# Altium schematic symbol library SCH - MCU - STM32 - ST MICROELECTRONICS STM32L4A6AGIX UFBGA169.SchLib: 1 symbol
Pins are listed as number, name and electrical type; pins without a type are passive.

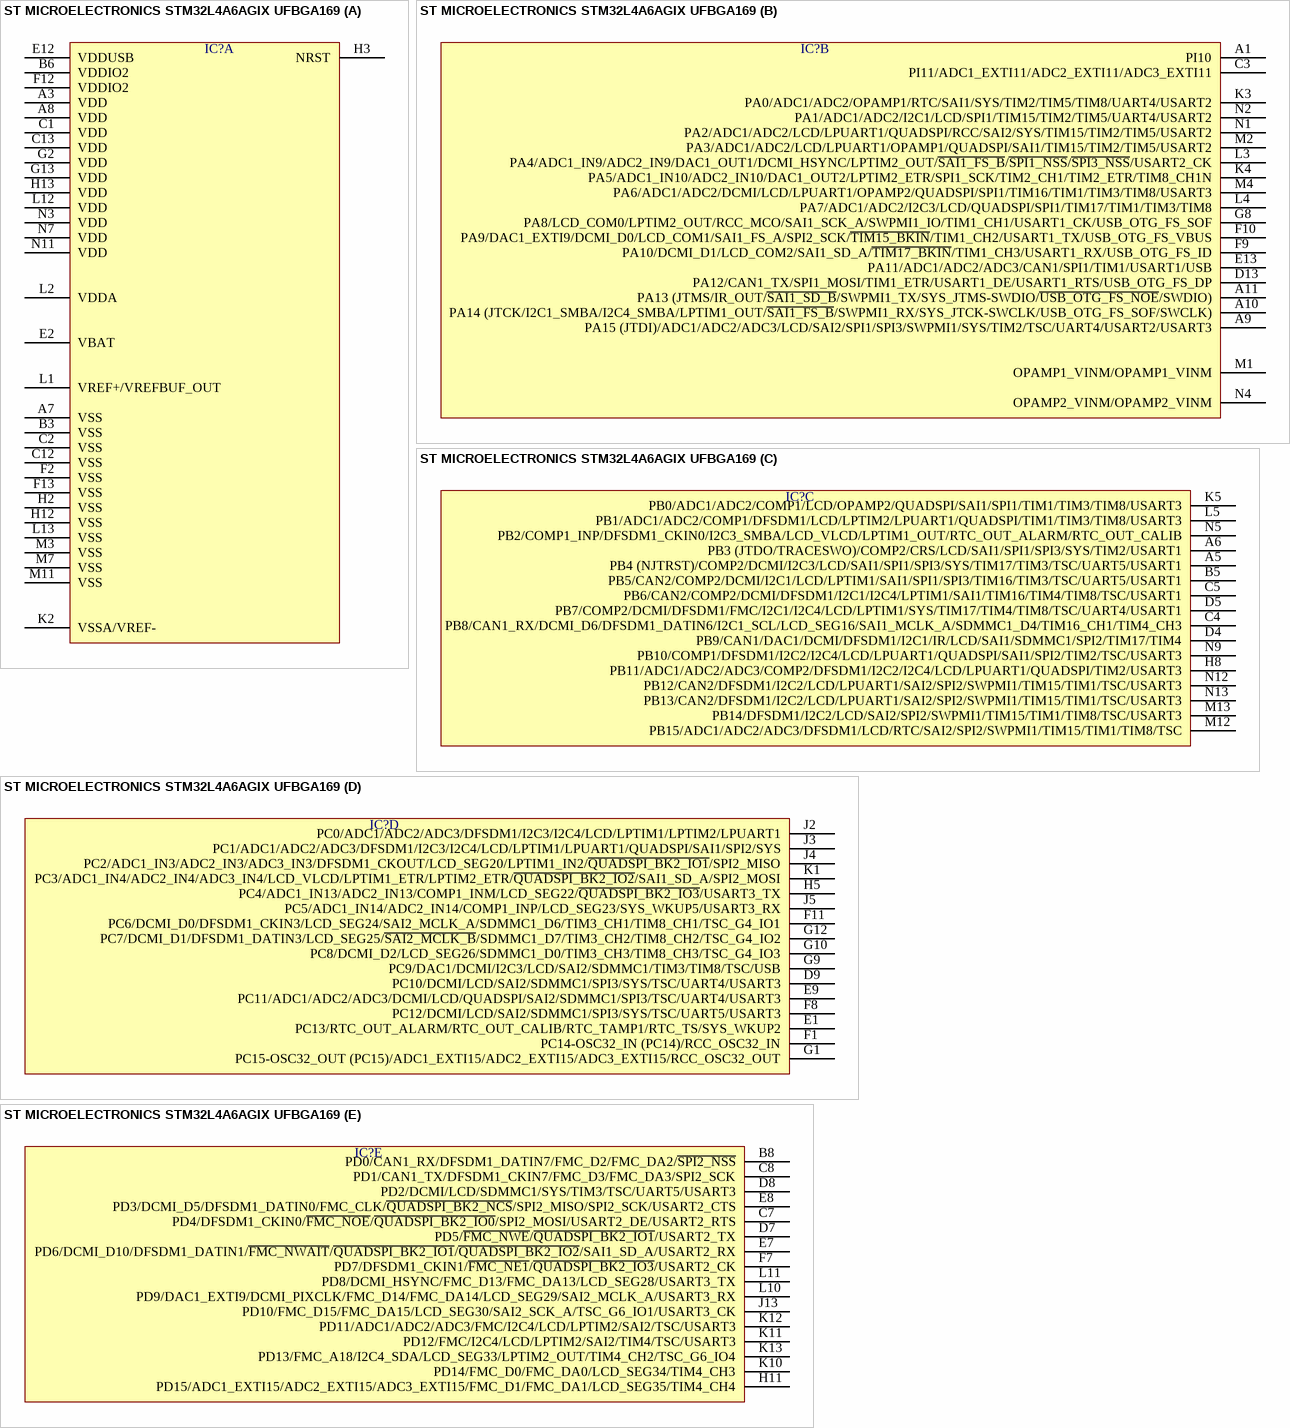
[diagram p0: symbol ST MICROELECTRONICS STM32L4A6AGIX UFBGA169]

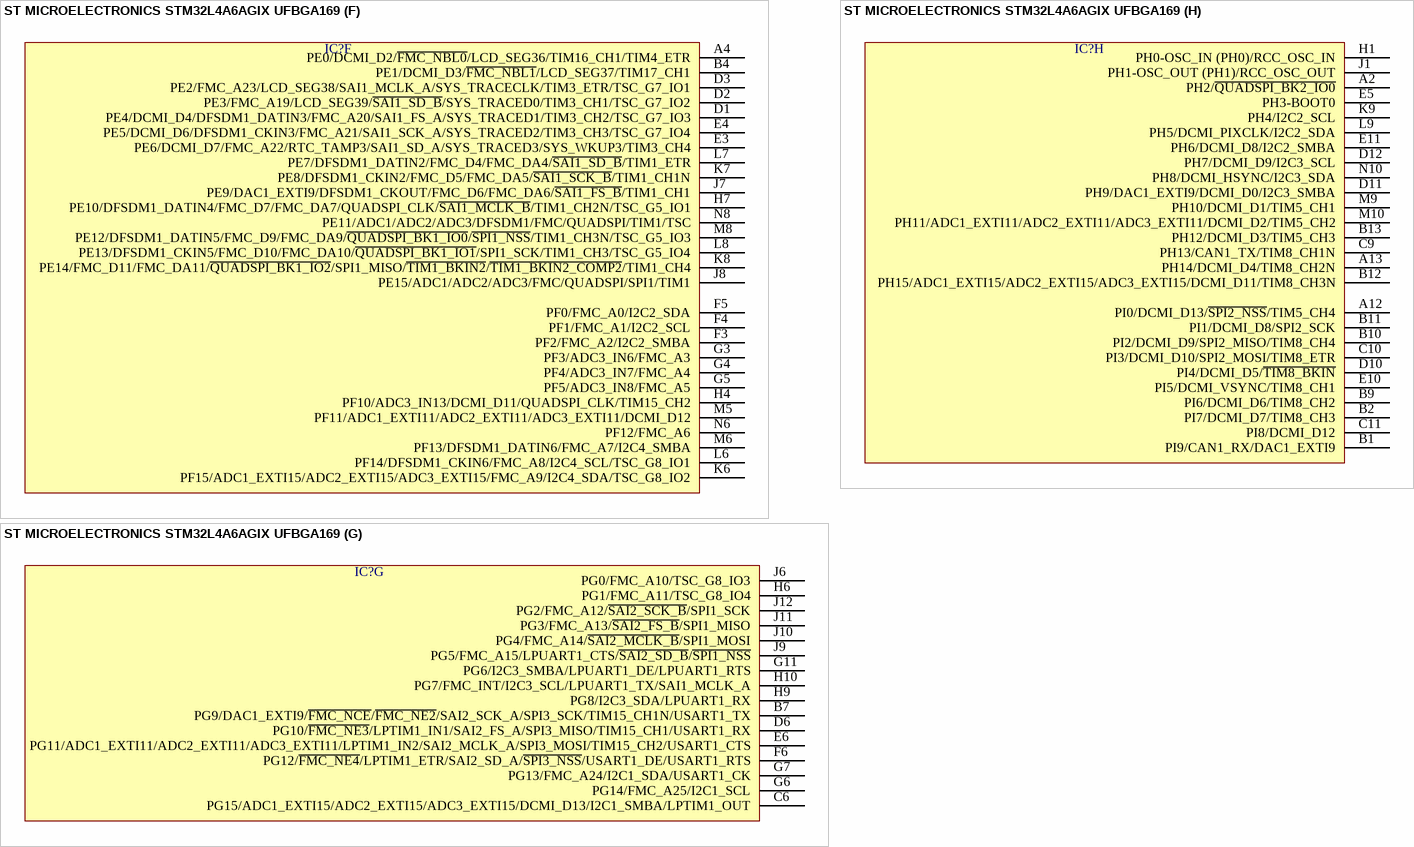
[diagram p1: symbol ST MICROELECTRONICS STM32L4A6AGIX UFBGA169]

## ST MICROELECTRONICS STM32L4A6AGIX UFBGA169
designator IC?  (value not drawn)
part A pins: A3 VDD, A7 VSS, A8 VDD, B3 VSS, B6 VDDIO2, C1 VDD, C2 VSS, C12 VSS, C13 VDD, E2 VBAT, E12 VDDUSB, F2 VSS, F12 VDDIO2, F13 VSS, G2 VDD, G13 VDD, H2 VSS, H3 NRST, H12 VSS, H13 VDD, K2 VSSA/VREF-, L1 VREF+/VREFBUF_OUT, L2 VDDA, L12 VDD, L13 VSS, M3 VSS, M7 VSS, M11 VSS, N3 VDD, N7 VDD, N11 VDD
part B pins: A1 PI10, A9 PA15 (JTDI)/ADC1/ADC2/ADC3/LCD/SAI2/SPI1/SPI3/SWPMI1/SYS/TIM2/TSC/UART4/USART2/USART3, A10 PA14 (JTCK/I2C1_SMBA/I2C4_SMBA/LPTIM1_OUT/~{SAI1_FS_B}/SWPMI1_RX/SYS_JTCK-SWCLK/USB_OTG_FS_SOF/SWCLK), A11 PA13 (JTMS/IR_OUT/~{SAI1_SD_B}/SWPMI1_TX/SYS_JTMS-SWDIO/~{USB_OTG_FS_NOE}/SWDIO), C3 PI11/ADC1_EXTI11/ADC2_EXTI11/ADC3_EXTI11, D13 PA12/CAN1_TX/SPI1_MOSI/TIM1_ETR/USART1_DE/USART1_RTS/USB_OTG_FS_DP, E13 PA11/ADC1/ADC2/ADC3/CAN1/SPI1/TIM1/USART1/USB, F9 PA10/DCMI_D1/LCD_COM2/SAI1_SD_A/~{TIM17_BKIN}/TIM1_CH3/USART1_RX/USB_OTG_FS_ID, F10 PA9/DAC1_EXTI9/DCMI_D0/LCD_COM1/SAI1_FS_A/SPI2_SCK/~{TIM15_BKIN}/TIM1_CH2/USART1_TX/USB_OTG_FS_VBUS, G8 PA8/LCD_COM0/LPTIM2_OUT/RCC_MCO/SAI1_SCK_A/SWPMI1_IO/TIM1_CH1/USART1_CK/USB_OTG_FS_SOF, K3 PA0/ADC1/ADC2/OPAMP1/RTC/SAI1/SYS/TIM2/TIM5/TIM8/UART4/USART2, K4 PA5/ADC1_IN10/ADC2_IN10/DAC1_OUT2/LPTIM2_ETR/SPI1_SCK/TIM2_CH1/TIM2_ETR/TIM8_CH1N, L3 PA4/ADC1_IN9/ADC2_IN9/DAC1_OUT1/DCMI_HSYNC/LPTIM2_OUT/~{SAI1_FS_B}/~{SPI1_NSS}/~{SPI3_NSS}/USART2_CK, L4 PA7/ADC1/ADC2/I2C3/LCD/QUADSPI/SPI1/TIM17/TIM1/TIM3/TIM8, M1 OPAMP1_VINM/OPAMP1_VINM, M2 PA3/ADC1/ADC2/LCD/LPUART1/OPAMP1/QUADSPI/SAI1/TIM15/TIM2/TIM5/USART2, M4 PA6/ADC1/ADC2/DCMI/LCD/LPUART1/OPAMP2/QUADSPI/SPI1/TIM16/TIM1/TIM3/TIM8/USART3, N1 PA2/ADC1/ADC2/LCD/LPUART1/QUADSPI/RCC/SAI2/SYS/TIM15/TIM2/TIM5/USART2, N2 PA1/ADC1/ADC2/I2C1/LCD/SPI1/TIM15/TIM2/TIM5/UART4/USART2, N4 OPAMP2_VINM/OPAMP2_VINM
part C pins: A5 PB4 (NJTRST)/COMP2/DCMI/I2C3/LCD/SAI1/SPI1/SPI3/SYS/TIM17/TIM3/TSC/UART5/USART1, A6 PB3 (JTDO/TRACESWO)/COMP2/CRS/LCD/SAI1/SPI1/SPI3/SYS/TIM2/USART1, B5 PB5/CAN2/COMP2/DCMI/I2C1/LCD/LPTIM1/SAI1/SPI1/SPI3/TIM16/TIM3/TSC/UART5/USART1, C4 PB8/CAN1_RX/DCMI_D6/DFSDM1_DATIN6/I2C1_SCL/LCD_SEG16/SAI1_MCLK_A/SDMMC1_D4/TIM16_CH1/TIM4_CH3, C5 PB6/CAN2/COMP2/DCMI/DFSDM1/I2C1/I2C4/LPTIM1/SAI1/TIM16/TIM4/TIM8/TSC/USART1, D4 PB9/CAN1/DAC1/DCMI/DFSDM1/I2C1/IR/LCD/SAI1/SDMMC1/SPI2/TIM17/TIM4, D5 PB7/COMP2/DCMI/DFSDM1/FMC/I2C1/I2C4/LCD/LPTIM1/SYS/TIM17/TIM4/TIM8/TSC/UART4/USART1, H8 PB11/ADC1/ADC2/ADC3/COMP2/DFSDM1/I2C2/I2C4/LCD/LPUART1/QUADSPI/TIM2/USART3, K5 PB0/ADC1/ADC2/COMP1/LCD/OPAMP2/QUADSPI/SAI1/SPI1/TIM1/TIM3/TIM8/USART3, L5 PB1/ADC1/ADC2/COMP1/DFSDM1/LCD/LPTIM2/LPUART1/QUADSPI/TIM1/TIM3/TIM8/USART3, M12 PB15/ADC1/ADC2/ADC3/DFSDM1/LCD/RTC/SAI2/SPI2/SWPMI1/TIM15/TIM1/TIM8/TSC, M13 PB14/DFSDM1/I2C2/LCD/SAI2/SPI2/SWPMI1/TIM15/TIM1/TIM8/TSC/USART3, N5 PB2/COMP1_INP/DFSDM1_CKIN0/I2C3_SMBA/LCD_VLCD/LPTIM1_OUT/RTC_OUT_ALARM/RTC_OUT_CALIB, N9 PB10/COMP1/DFSDM1/I2C2/I2C4/LCD/LPUART1/QUADSPI/SAI1/SPI2/TIM2/TSC/USART3, N12 PB12/CAN2/DFSDM1/I2C2/LCD/LPUART1/SAI2/SPI2/SWPMI1/TIM15/TIM1/TSC/USART3, N13 PB13/CAN2/DFSDM1/I2C2/LCD/LPUART1/SAI2/SPI2/SWPMI1/TIM15/TIM1/TSC/USART3
part D pins: D9 PC10/DCMI/LCD/SAI2/SDMMC1/SPI3/SYS/TSC/UART4/USART3, E1 PC13/RTC_OUT_ALARM/RTC_OUT_CALIB/RTC_TAMP1/RTC_TS/SYS_WKUP2, E9 PC11/ADC1/ADC2/ADC3/DCMI/LCD/QUADSPI/SAI2/SDMMC1/SPI3/TSC/UART4/USART3, F1 PC14-OSC32_IN (PC14)/RCC_OSC32_IN, F8 PC12/DCMI/LCD/SAI2/SDMMC1/SPI3/SYS/TSC/UART5/USART3, F11 PC6/DCMI_D0/DFSDM1_CKIN3/LCD_SEG24/SAI2_MCLK_A/SDMMC1_D6/TIM3_CH1/TIM8_CH1/TSC_G4_IO1, G1 PC15-OSC32_OUT (PC15)/ADC1_EXTI15/ADC2_EXTI15/ADC3_EXTI15/RCC_OSC32_OUT, G9 PC9/DAC1/DCMI/I2C3/LCD/SAI2/SDMMC1/TIM3/TIM8/TSC/USB, G10 PC8/DCMI_D2/LCD_SEG26/SDMMC1_D0/TIM3_CH3/TIM8_CH3/TSC_G4_IO3, G12 PC7/DCMI_D1/DFSDM1_DATIN3/LCD_SEG25/~{SAI2_MCLK_B}/SDMMC1_D7/TIM3_CH2/TIM8_CH2/TSC_G4_IO2, H5 PC4/ADC1_IN13/ADC2_IN13/COMP1_INM/LCD_SEG22/~{QUADSPI_BK2_IO3}/USART3_TX, J2 PC0/ADC1/ADC2/ADC3/DFSDM1/I2C3/I2C4/LCD/LPTIM1/LPTIM2/LPUART1, J3 PC1/ADC1/ADC2/ADC3/DFSDM1/I2C3/I2C4/LCD/LPTIM1/LPUART1/QUADSPI/SAI1/SPI2/SYS, J4 PC2/ADC1_IN3/ADC2_IN3/ADC3_IN3/DFSDM1_CKOUT/LCD_SEG20/LPTIM1_IN2/~{QUADSPI_BK2_IO1}/SPI2_MISO, J5 PC5/ADC1_IN14/ADC2_IN14/COMP1_INP/LCD_SEG23/SYS_WKUP5/USART3_RX, K1 PC3/ADC1_IN4/ADC2_IN4/ADC3_IN4/LCD_VLCD/LPTIM1_ETR/LPTIM2_ETR/~{QUADSPI_BK2_IO2}/SAI1_SD_A/SPI2_MOSI
part E pins: B8 PD0/CAN1_RX/DFSDM1_DATIN7/FMC_D2/FMC_DA2/~{SPI2_NSS}, C7 PD4/DFSDM1_CKIN0/~{FMC_NOE}/~{QUADSPI_BK2_IO0}/SPI2_MOSI/USART2_DE/USART2_RTS, C8 PD1/CAN1_TX/DFSDM1_CKIN7/FMC_D3/FMC_DA3/SPI2_SCK, D7 PD5/~{FMC_NWE}/~{QUADSPI_BK2_IO1}/USART2_TX, D8 PD2/DCMI/LCD/SDMMC1/SYS/TIM3/TSC/UART5/USART3, E7 PD6/DCMI_D10/DFSDM1_DATIN1/~{FMC_NWAIT}/~{QUADSPI_BK2_IO1}/~{QUADSPI_BK2_IO2}/SAI1_SD_A/USART2_RX, E8 PD3/DCMI_D5/DFSDM1_DATIN0/FMC_CLK/~{QUADSPI_BK2_NCS}/SPI2_MISO/SPI2_SCK/USART2_CTS, F7 PD7/DFSDM1_CKIN1/~{FMC_NE1}/~{QUADSPI_BK2_IO3}/USART2_CK, H11 PD15/ADC1_EXTI15/ADC2_EXTI15/ADC3_EXTI15/FMC_D1/FMC_DA1/LCD_SEG35/TIM4_CH4, J13 PD10/FMC_D15/FMC_DA15/LCD_SEG30/SAI2_SCK_A/TSC_G6_IO1/USART3_CK, K10 PD14/FMC_D0/FMC_DA0/LCD_SEG34/TIM4_CH3, K11 PD12/FMC/I2C4/LCD/LPTIM2/SAI2/TIM4/TSC/USART3, K12 PD11/ADC1/ADC2/ADC3/FMC/I2C4/LCD/LPTIM2/SAI2/TSC/USART3, K13 PD13/FMC_A18/I2C4_SDA/LCD_SEG33/LPTIM2_OUT/TIM4_CH2/TSC_G6_IO4, L10 PD9/DAC1_EXTI9/DCMI_PIXCLK/FMC_D14/FMC_DA14/LCD_SEG29/SAI2_MCLK_A/USART3_RX, L11 PD8/DCMI_HSYNC/FMC_D13/FMC_DA13/LCD_SEG28/USART3_TX
part F pins: A4 PE0/DCMI_D2/~{FMC_NBL0}/LCD_SEG36/TIM16_CH1/TIM4_ETR, B4 PE1/DCMI_D3/~{FMC_NBL1}/LCD_SEG37/TIM17_CH1, D1 PE4/DCMI_D4/DFSDM1_DATIN3/FMC_A20/SAI1_FS_A/SYS_TRACED1/TIM3_CH2/TSC_G7_IO3, D2 PE3/FMC_A19/LCD_SEG39/~{SAI1_SD_B}/SYS_TRACED0/TIM3_CH1/TSC_G7_IO2, D3 PE2/FMC_A23/LCD_SEG38/SAI1_MCLK_A/SYS_TRACECLK/TIM3_ETR/TSC_G7_IO1, E3 PE6/DCMI_D7/FMC_A22/RTC_TAMP3/SAI1_SD_A/SYS_TRACED3/SYS_WKUP3/TIM3_CH4, E4 PE5/DCMI_D6/DFSDM1_CKIN3/FMC_A21/SAI1_SCK_A/SYS_TRACED2/TIM3_CH3/TSC_G7_IO4, F3 PF2/FMC_A2/I2C2_SMBA, F4 PF1/FMC_A1/I2C2_SCL, F5 PF0/FMC_A0/I2C2_SDA, G3 PF3/ADC3_IN6/FMC_A3, G4 PF4/ADC3_IN7/FMC_A4, G5 PF5/ADC3_IN8/FMC_A5, H4 PF10/ADC3_IN13/DCMI_D11/QUADSPI_CLK/TIM15_CH2, H7 PE10/DFSDM1_DATIN4/FMC_D7/FMC_DA7/QUADSPI_CLK/~{SAI1_MCLK_B}/TIM1_CH2N/TSC_G5_IO1, J7 PE9/DAC1_EXTI9/DFSDM1_CKOUT/FMC_D6/FMC_DA6/~{SAI1_FS_B}/TIM1_CH1, J8 PE15/ADC1/ADC2/ADC3/FMC/QUADSPI/SPI1/TIM1, K6 PF15/ADC1_EXTI15/ADC2_EXTI15/ADC3_EXTI15/FMC_A9/I2C4_SDA/TSC_G8_IO2, K7 PE8/DFSDM1_CKIN2/FMC_D5/FMC_DA5/~{SAI1_SCK_B}/TIM1_CH1N, K8 PE14/FMC_D11/FMC_DA11/~{QUADSPI_BK1_IO2}/SPI1_MISO/~{TIM1_BKIN2}/~{TIM1_BKIN2_COMP2}/TIM1_CH4, L6 PF14/DFSDM1_CKIN6/FMC_A8/I2C4_SCL/TSC_G8_IO1, L7 PE7/DFSDM1_DATIN2/FMC_D4/FMC_DA4/~{SAI1_SD_B}/TIM1_ETR, L8 PE13/DFSDM1_CKIN5/FMC_D10/FMC_DA10/~{QUADSPI_BK1_IO1}/SPI1_SCK/TIM1_CH3/TSC_G5_IO4, M5 PF11/ADC1_EXTI11/ADC2_EXTI11/ADC3_EXTI11/DCMI_D12, M6 PF13/DFSDM1_DATIN6/FMC_A7/I2C4_SMBA, M8 PE12/DFSDM1_DATIN5/FMC_D9/FMC_DA9/~{QUADSPI_BK1_IO0}/~{SPI1_NSS}/TIM1_CH3N/TSC_G5_IO3, N6 PF12/FMC_A6, N8 PE11/ADC1/ADC2/ADC3/DFSDM1/FMC/QUADSPI/TIM1/TSC
part G pins: B7 PG9/DAC1_EXTI9/~{FMC_NCE}/~{FMC_NE2}/SAI2_SCK_A/SPI3_SCK/TIM15_CH1N/USART1_TX, C6 PG15/ADC1_EXTI15/ADC2_EXTI15/ADC3_EXTI15/DCMI_D13/I2C1_SMBA/LPTIM1_OUT, D6 PG10/~{FMC_NE3}/LPTIM1_IN1/SAI2_FS_A/SPI3_MISO/TIM15_CH1/USART1_RX, E6 PG11/ADC1_EXTI11/ADC2_EXTI11/ADC3_EXTI11/LPTIM1_IN2/SAI2_MCLK_A/SPI3_MOSI/TIM15_CH2/USART1_CTS, F6 PG12/~{FMC_NE4}/LPTIM1_ETR/SAI2_SD_A/~{SPI3_NSS}/USART1_DE/USART1_RTS, G6 PG14/FMC_A25/I2C1_SCL, G7 PG13/FMC_A24/I2C1_SDA/USART1_CK, G11 PG6/I2C3_SMBA/LPUART1_DE/LPUART1_RTS, H6 PG1/FMC_A11/TSC_G8_IO4, H9 PG8/I2C3_SDA/LPUART1_RX, H10 PG7/FMC_INT/I2C3_SCL/LPUART1_TX/SAI1_MCLK_A, J6 PG0/FMC_A10/TSC_G8_IO3, J9 PG5/FMC_A15/LPUART1_CTS/~{SAI2_SD_B}/~{SPI1_NSS}, J10 PG4/FMC_A14/~{SAI2_MCLK_B}/SPI1_MOSI, J11 PG3/FMC_A13/~{SAI2_FS_B}/SPI1_MISO, J12 PG2/FMC_A12/~{SAI2_SCK_B}/SPI1_SCK
part H pins: A2 PH2/~{QUADSPI_BK2_IO0}, A12 PI0/DCMI_D13/~{SPI2_NSS}/TIM5_CH4, A13 PH14/DCMI_D4/TIM8_CH2N, B1 PI9/CAN1_RX/DAC1_EXTI9, B2 PI7/DCMI_D7/TIM8_CH3, B9 PI6/DCMI_D6/TIM8_CH2, B10 PI2/DCMI_D9/SPI2_MISO/TIM8_CH4, B11 PI1/DCMI_D8/SPI2_SCK, B12 PH15/ADC1_EXTI15/ADC2_EXTI15/ADC3_EXTI15/DCMI_D11/TIM8_CH3N, B13 PH12/DCMI_D3/TIM5_CH3, C9 PH13/CAN1_TX/TIM8_CH1N, C10 PI3/DCMI_D10/SPI2_MOSI/TIM8_ETR, C11 PI8/DCMI_D12, D10 PI4/DCMI_D5/~{TIM8_BKIN}, D11 PH9/DAC1_EXTI9/DCMI_D0/I2C3_SMBA, D12 PH7/DCMI_D9/I2C3_SCL, E5 PH3-BOOT0, E10 PI5/DCMI_VSYNC/TIM8_CH1, E11 PH6/DCMI_D8/I2C2_SMBA, H1 PH0-OSC_IN (PH0)/RCC_OSC_IN, J1 PH1-OSC_OUT (PH1)/RCC_OSC_OUT, K9 PH4/I2C2_SCL, L9 PH5/DCMI_PIXCLK/I2C2_SDA, M9 PH10/DCMI_D1/TIM5_CH1, M10 PH11/ADC1_EXTI11/ADC2_EXTI11/ADC3_EXTI11/DCMI_D2/TIM5_CH2, N10 PH8/DCMI_HSYNC/I2C3_SDA